# Altium footprint library Motor_Drive.PcbLib: 37 footprints (part 3 of 3)
Each footprint in its own frame and in the unit in brackets; x right, y up, seen from the top. Pads: shape width x height; smd on the part's side, far side on the other; paste and mask are expansions set on the pad; w line width, h text height; cw(c..) or ccw(c..) is an arc to the next point about the centre after c.
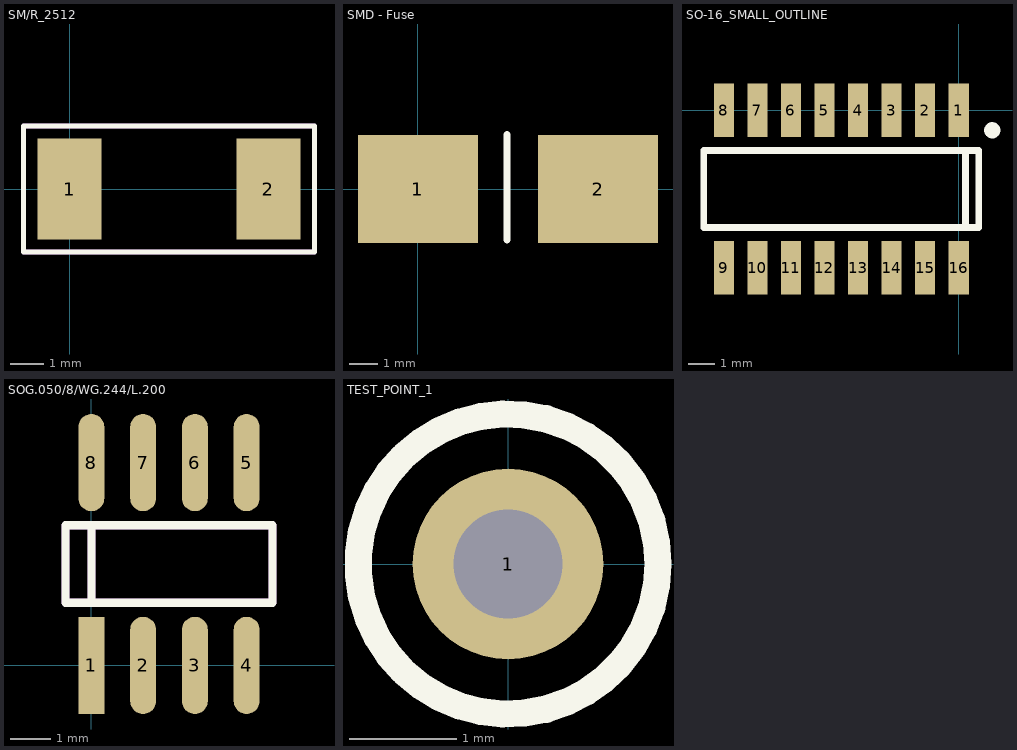
[diagram p2: the footprints below, top view; thin cyan lines are the x and y axes]

## SM/R_2512 [mil]
height 270.08
pads (2):
  rect 76x120 smd: 1(0,0) 2(236,0)
Top Overlay:
  lines w6: -54.5,-75 -54.5,75 290.5,75 290.5,-75 -54.5,-75
Mechanical 1:
  lines w6: -54.5,-75 -54.5,75 290.5,75 290.5,-75 -54.5,-75

## SMD - Fuse [mil]
pads (2):
  rect 167x150 smd: 1(0,0) 2(251,0)
Top Overlay:
  lines w10: 124,-71 124,76

## SO-16_SMALL_OUTLINE [mil] "OPTOCOUPLER SO-16 PACKAGE"
height 60
pads (16):
  rect 30x80 smd: 1(0,0) 2(-50,0) 3(-100,0) 4(-150,0) 5(-200,0) 6(-250,0) 7(-300,0) 8(-350,0) 9(-350,-235) 10(-300,-235) 11(-250,-235) 12(-200,-235) 13(-150,-235) 14(-100,-235) 15(-50,-235) 16(0,-235)
Top Overlay:
  circle w10: c52.07,-30 r5
  circle w10: c50,-30 r7.07
  lines w10: 10,-175 10,-60 ; -380,-175 -380,-60 30,-60 30,-175 -380,-175

## SOG.050/8/WG.244/L.200 [mil]
pads (8):
  rect 25x94 smd: 1(0,0)
  oval 25x94 smd: 2(50,0) 3(100,0) 4(150,0) 5(150,196) 6(100,196) 7(50,196) 8(0,196)
Top Overlay:
  lines w8: 0,60.5 0,135.5 ; -25,60.5 -25,135.5 175,135.5 175,60.5 -25,60.5
Mechanical 1:
  lines w8: 0,60.5 0,135.5 ; -25,60.5 -25,135.5 175,135.5 175,60.5 -25,60.5

## TEST_POINT_1 [mil] "TEST POINT, PC, MINI, 0.040\" MTG HOLE"
pads (1):
  round 70 hole 40: 1(0,0)
Top Overlay:
  circle w10: c0,0 r55